# Altium footprint library BSPD_V1.1.PcbLib: 2 footprints
Each footprint in its own frame and in the unit in brackets; x right, y up, seen from the top. Pads: shape width x height; smd on the part's side, far side on the other; paste and mask are expansions set on the pad; w line width, h text height; cw(c..) or ccw(c..) is an arc to the next point about the centre after c.
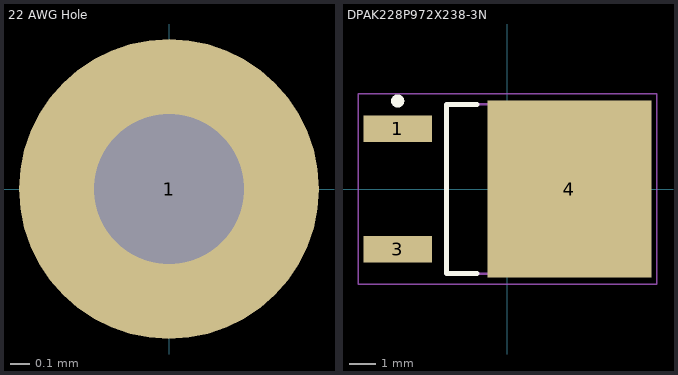
[diagram p0: the footprints below, top view; thin cyan lines are the x and y axes]

## 22 AWG Hole [mil] "Solder 22awg or whatever wire fits into this"
pads (1):
  round 60 hole 30 mask+0: 1(0,0)

## DPAK228P972X238-3N [mm] "D-PAK, 3-Pads, Body 6.40x6.56mm (max), IPC Medium Density"
height 2.38
pads (3):
  rect 2.6x1 smd: 1(-4.15,2.28) 3(-4.15,-2.28)
  rect 6.2x6.7 smd: 4(2.35,0)
Top Overlay:
  circle w0.25: c-4.15,3.33 r0.125
  lines w0.2: -1.15,-3.2 -2.3,-3.2 -2.3,3.2 -1.15,3.2
Mechanical 13:
  lines w0.1: -2.3,-3.2 4.3,-3.2 4.3,3.2 -2.3,3.2 -2.3,-3.2
Mechanical 15:
  lines w0.05: -5.65,-3.6 5.65,-3.6 5.65,3.6 -5.65,3.6 -5.65,-3.6
  lines w0.1: -0.5,0 0.5,0 ; 0,-0.5 0,0.5
3D body "DPAK228P972X238-3N.step": height 3.28, standoff 0, extent -4.125,-3.25 5.6,3.25